# EAGLE library part OSTTE100104 (library TJ)
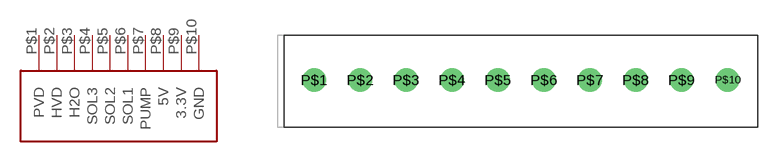
[diagram p3: symbol with the pads of OSTTE100104; footprint OSTTE100104]

Designator prefix -

## OSTTE100104  [OSTTE100104]
P$1  PVD  in
P$2  HVD
P$3  H2O  pwr
P$4  SOL3  out
P$5  SOL2  out
P$6  SOL1  out
P$7  PUMP  out
P$8  5V  pwr
P$9  3.3V  pwr
P$10  GND

## Footprint OSTTE100104 (pad centres in mm)
drill 1.2: P$1 0,0; P$2 3.5,0; P$3 7,0; P$4 10.5,0; P$5 14,0; P$6 17.5,0; P$7 21,0; P$8 24.5,0; P$9 28,0; P$10 31.5,0